# Altium footprint library Pin Grid Array Package (PGA).PcbLib: 60 footprints (part 4 of 6)
Each footprint in its own frame and in the unit in brackets; x right, y up, seen from the top. Pads: shape width x height; smd on the part's side, far side on the other; paste and mask are expansions set on the pad; w line width, h text height; cw(c..) or ccw(c..) is an arc to the next point about the centre after c.
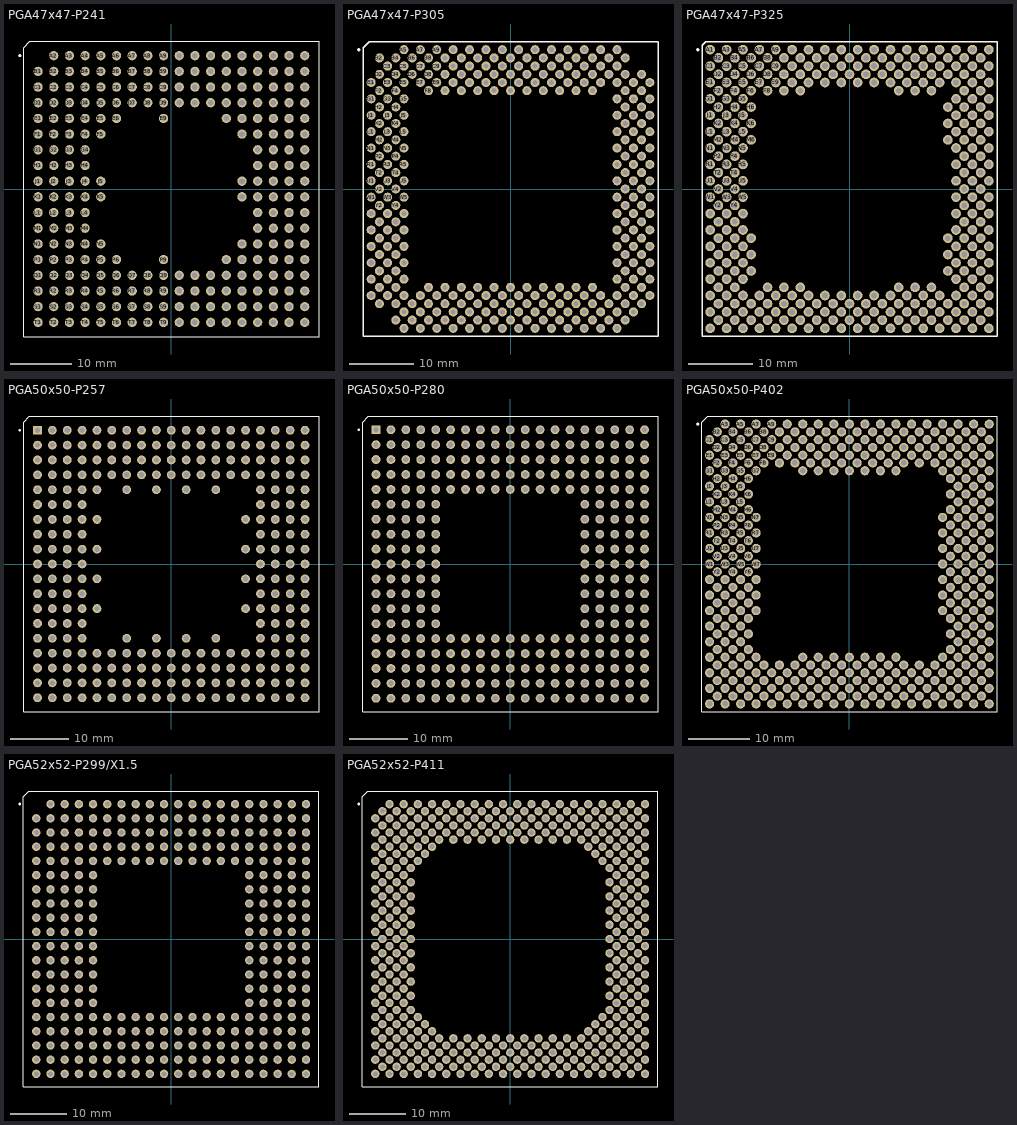
[diagram p3: the footprints below, top view; thin cyan lines are the x and y axes]

## PGA47x47-P241 [mm] "PGA; 241 Leads; Body 47 x 47 mm; Plain Grid"
height 5.08
pads (241):
  round 1.5 hole 0.9: A2(-19.05,21.59) A3(-16.51,21.59) A4(-13.97,21.59) A5(-11.43,21.59) A6(-8.89,21.59) A7(-6.35,21.59) A8(-3.81,21.59) A9(-1.27,21.59) A10(1.27,21.59) A11(3.81,21.59) A12(6.35,21.59) A13(8.89,21.59) A14(11.43,21.59) A15(13.97,21.59) A16(16.51,21.59) A17(19.05,21.59) A18(21.59,21.59) B1(-21.59,19.05) B2(-19.05,19.05) B3(-16.51,19.05) B4(-13.97,19.05) B5(-11.43,19.05) B6(-8.89,19.05) B7(-6.35,19.05) B8(-3.81,19.05) B9(-1.27,19.05) B10(1.27,19.05) B11(3.81,19.05) B12(6.35,19.05) B13(8.89,19.05) B14(11.43,19.05) B15(13.97,19.05) B16(16.51,19.05) B17(19.05,19.05) B18(21.59,19.05) C1(-21.59,16.51) C2(-19.05,16.51) C3(-16.51,16.51) C4(-13.97,16.51) C5(-11.43,16.51) C6(-8.89,16.51) C7(-6.35,16.51) C8(-3.81,16.51) C9(-1.27,16.51) C10(1.27,16.51) C11(3.81,16.51) C12(6.35,16.51) C13(8.89,16.51) C14(11.43,16.51) C15(13.97,16.51) C16(16.51,16.51) C17(19.05,16.51) C18(21.59,16.51) D1(-21.59,13.97) D2(-19.05,13.97) D3(-16.51,13.97) D4(-13.97,13.97) D5(-11.43,13.97) D6(-8.89,13.97) D7(-6.35,13.97) D8(-3.81,13.97) D9(-1.27,13.97) D10(1.27,13.97) D11(3.81,13.97) D12(6.35,13.97) D13(8.89,13.97) D14(11.43,13.97) D15(13.97,13.97) D16(16.51,13.97) D17(19.05,13.97) D18(21.59,13.97) E1(-21.59,11.43) E2(-19.05,11.43) E3(-16.51,11.43) E4(-13.97,11.43) E5(-11.43,11.43) E6(-8.89,11.43) E9(-1.27,11.43) E13(8.89,11.43) E14(11.43,11.43) E15(13.97,11.43) E16(16.51,11.43) E17(19.05,11.43) E18(21.59,11.43) F1(-21.59,8.89) F2(-19.05,8.89) F3(-16.51,8.89) F4(-13.97,8.89) F5(-11.43,8.89) F14(11.43,8.89) F15(13.97,8.89) F16(16.51,8.89) F17(19.05,8.89) F18(21.59,8.89) G1(-21.59,6.35) G2(-19.05,6.35) G3(-16.51,6.35) G4(-13.97,6.35) G15(13.97,6.35) G16(16.51,6.35) G17(19.05,6.35) G18(21.59,6.35) H1(-21.59,3.81) H2(-19.05,3.81) H3(-16.51,3.81) H4(-13.97,3.81) H15(13.97,3.81) H16(16.51,3.81) H17(19.05,3.81) H18(21.59,3.81) J1(-21.59,1.27) J2(-19.05,1.27) J3(-16.51,1.27) J4(-13.97,1.27) J5(-11.43,1.27) J14(11.43,1.27) J15(13.97,1.27) J16(16.51,1.27) J17(19.05,1.27) J18(21.59,1.27) K1(-21.59,-1.27) K2(-19.05,-1.27) K3(-16.51,-1.27) K4(-13.97,-1.27) K5(-11.43,-1.27) K14(11.43,-1.27) K15(13.97,-1.27) K16(16.51,-1.27) K17(19.05,-1.27) K18(21.59,-1.27) L1(-21.59,-3.81) L2(-19.05,-3.81) L3(-16.51,-3.81) L4(-13.97,-3.81) L15(13.97,-3.81) L16(16.51,-3.81) L17(19.05,-3.81) L18(21.59,-3.81) M1(-21.59,-6.35) M2(-19.05,-6.35) M3(-16.51,-6.35) M4(-13.97,-6.35) M15(13.97,-6.35) M16(16.51,-6.35) M17(19.05,-6.35) M18(21.59,-6.35) N1(-21.59,-8.89) N2(-19.05,-8.89) N3(-16.51,-8.89) N4(-13.97,-8.89) N5(-11.43,-8.89) N14(11.43,-8.89) N15(13.97,-8.89) N16(16.51,-8.89) N17(19.05,-8.89) N18(21.59,-8.89) P1(-21.59,-11.43) P2(-19.05,-11.43) P3(-16.51,-11.43) P4(-13.97,-11.43) P5(-11.43,-11.43) P6(-8.89,-11.43) P9(-1.27,-11.43) P13(8.89,-11.43) P14(11.43,-11.43) P15(13.97,-11.43) P16(16.51,-11.43) P17(19.05,-11.43) P18(21.59,-11.43) Q1(-21.59,-13.97) Q2(-19.05,-13.97) Q3(-16.51,-13.97) Q4(-13.97,-13.97) Q5(-11.43,-13.97) Q6(-8.89,-13.97) Q7(-6.35,-13.97) Q8(-3.81,-13.97) Q9(-1.27,-13.97) Q10(1.27,-13.97) Q11(3.81,-13.97) Q12(6.35,-13.97) Q13(8.89,-13.97) Q14(11.43,-13.97) Q15(13.97,-13.97) Q16(16.51,-13.97) Q17(19.05,-13.97) Q18(21.59,-13.97) R1(-21.59,-16.51) R2(-19.05,-16.51) R3(-16.51,-16.51) R4(-13.97,-16.51) R5(-11.43,-16.51) R6(-8.89,-16.51) R7(-6.35,-16.51) R8(-3.81,-16.51) R9(-1.27,-16.51) R10(1.27,-16.51) R11(3.81,-16.51) R12(6.35,-16.51) R13(8.89,-16.51) R14(11.43,-16.51) R15(13.97,-16.51) R16(16.51,-16.51) R17(19.05,-16.51) R18(21.59,-16.51) S1(-21.59,-19.05) S2(-19.05,-19.05) S3(-16.51,-19.05) S4(-13.97,-19.05) S5(-11.43,-19.05) S6(-8.89,-19.05) S7(-6.35,-19.05) S8(-3.81,-19.05) S9(-1.27,-19.05) S10(1.27,-19.05) S11(3.81,-19.05) S12(6.35,-19.05) S13(8.89,-19.05) S14(11.43,-19.05) S15(13.97,-19.05) S16(16.51,-19.05) S17(19.05,-19.05) S18(21.59,-19.05) T1(-21.59,-21.59) T2(-19.05,-21.59) T3(-16.51,-21.59) T4(-13.97,-21.59) T5(-11.43,-21.59) T6(-8.89,-21.59) T7(-6.35,-21.59) T8(-3.81,-21.59) T9(-1.27,-21.59) T10(1.27,-21.59) T11(3.81,-21.59) T12(6.35,-21.59) T13(8.89,-21.59) T14(11.43,-21.59) T15(13.97,-21.59) T16(16.51,-21.59) T17(19.05,-21.59) T18(21.59,-21.59)
Top Overlay:
  circle w0.25: c-24.55,21.59 r0.125
  lines w0.2: -23.9,-23.9 -23.9,22.9 -22.9,23.9 23.9,23.9 23.9,-23.9 -23.9,-23.9

## PGA47x47-P305 [mm] "PGA; 305 Leads; Body 47 x 47 mm; Staggered Grid"
height 5.59
pads (305):
  round 1.4 hole 0.8: A5(-16.51,21.59) A7(-13.97,21.59) A9(-11.43,21.59) A11(-8.89,21.59) A13(-6.35,21.59) A15(-3.81,21.59) A17(-1.27,21.59) A19(1.27,21.59) A21(3.81,21.59) A23(6.35,21.59) A25(8.89,21.59) A27(11.43,21.59) A29(13.97,21.59) A31(16.51,21.59) AA1(-21.59,-3.81) AA3(-19.05,-3.81) AA5(-16.51,-3.81) AA31(16.51,-3.81) AA33(19.05,-3.81) AA35(21.59,-3.81) AB2(-20.32,-5.08) AB4(-17.78,-5.08) AB32(17.78,-5.08) AB34(20.32,-5.08) AC1(-21.59,-6.35) AC3(-19.05,-6.35) AC5(-16.51,-6.35) AC31(16.51,-6.35) AC33(19.05,-6.35) AC35(21.59,-6.35) AD2(-20.32,-7.62) AD4(-17.78,-7.62) AD32(17.78,-7.62) AD34(20.32,-7.62) AE1(-21.59,-8.89) AE3(-19.05,-8.89) AE5(-16.51,-8.89) AE31(16.51,-8.89) AE33(19.05,-8.89) AE35(21.59,-8.89) AF2(-20.32,-10.16) AF4(-17.78,-10.16) AF32(17.78,-10.16) AF34(20.32,-10.16) AG1(-21.59,-11.43) AG3(-19.05,-11.43) AG5(-16.51,-11.43) AG31(16.51,-11.43) AG33(19.05,-11.43) AG35(21.59,-11.43) AH2(-20.32,-12.7) AH4(-17.78,-12.7) AH32(17.78,-12.7) AH34(20.32,-12.7) AJ1(-21.59,-13.97) AJ3(-19.05,-13.97) AJ5(-16.51,-13.97) AJ31(16.51,-13.97) AJ33(19.05,-13.97) AJ35(21.59,-13.97) AK2(-20.32,-15.24) AK4(-17.78,-15.24) AK8(-12.7,-15.24) AK10(-10.16,-15.24) AK12(-7.62,-15.24) AK14(-5.08,-15.24) AK16(-2.54,-15.24) AK18(0,-15.24) AK20(2.54,-15.24) AK22(5.08,-15.24) AK24(7.62,-15.24) AK26(10.16,-15.24) AK28(12.7,-15.24) AK32(17.78,-15.24) AK34(20.32,-15.24) AL1(-21.59,-16.51) AL3(-19.05,-16.51) AL5(-16.51,-16.51) AL7(-13.97,-16.51) AL9(-11.43,-16.51) AL11(-8.89,-16.51) AL13(-6.35,-16.51) AL15(-3.81,-16.51) AL17(-1.27,-16.51) AL19(1.27,-16.51) AL21(3.81,-16.51) AL23(6.35,-16.51) AL25(8.89,-16.51) AL27(11.43,-16.51) AL29(13.97,-16.51) AL31(16.51,-16.51) AL33(19.05,-16.51) AL35(21.59,-16.51) AM2(-20.32,-17.78) AM4(-17.78,-17.78) AM6(-15.24,-17.78) AM8(-12.7,-17.78) AM10(-10.16,-17.78) AM12(-7.62,-17.78) AM14(-5.08,-17.78) AM16(-2.54,-17.78) AM18(0,-17.78) AM20(2.54,-17.78) AM22(5.08,-17.78) AM24(7.62,-17.78) AM26(10.16,-17.78) AM28(12.7,-17.78) AM30(15.24,-17.78) AM32(17.78,-17.78) AM34(20.32,-17.78) AN5(-16.51,-19.05) AN7(-13.97,-19.05) AN9(-11.43,-19.05) AN11(-8.89,-19.05) AN13(-6.35,-19.05) AN15(-3.81,-19.05) AN17(-1.27,-19.05) AN19(1.27,-19.05) AN21(3.81,-19.05) AN23(6.35,-19.05) AN25(8.89,-19.05) AN27(11.43,-19.05) AN29(13.97,-19.05) AN31(16.51,-19.05) AN33(19.05,-19.05) AP4(-17.78,-20.32) AP6(-15.24,-20.32) AP8(-12.7,-20.32) AP10(-10.16,-20.32) AP12(-7.62,-20.32) AP14(-5.08,-20.32) AP16(-2.54,-20.32) AP18(0,-20.32) AP20(2.54,-20.32) AP22(5.08,-20.32) AP24(7.62,-20.32) AP26(10.16,-20.32) AP28(12.7,-20.32) AP30(15.24,-20.32) AP32(17.78,-20.32) AR5(-16.51,-21.59) AR7(-13.97,-21.59) AR9(-11.43,-21.59) AR11(-8.89,-21.59) AR13(-6.35,-21.59) AR15(-3.81,-21.59) AR17(-1.27,-21.59) AR19(1.27,-21.59) AR21(3.81,-21.59) AR23(6.35,-21.59) AR25(8.89,-21.59) AR27(11.43,-21.59) AR29(13.97,-21.59) AR31(16.51,-21.59) B2(-20.32,20.32) B4(-17.78,20.32) B6(-15.24,20.32) B8(-12.7,20.32) B10(-10.16,20.32) B12(-7.62,20.32) B14(-5.08,20.32) B16(-2.54,20.32) B18(0,20.32) B20(2.54,20.32) B22(5.08,20.32) B24(7.62,20.32) B26(10.16,20.32) B28(12.7,20.32) B30(15.24,20.32) B32(17.78,20.32) C3(-19.05,19.05) C5(-16.51,19.05) C7(-13.97,19.05) C9(-11.43,19.05) C11(-8.89,19.05) C13(-6.35,19.05) C15(-3.81,19.05) C17(-1.27,19.05) C19(1.27,19.05) C21(3.81,19.05) C23(6.35,19.05) C25(8.89,19.05) C27(11.43,19.05) C29(13.97,19.05) C31(16.51,19.05) D2(-20.32,17.78) D4(-17.78,17.78) D6(-15.24,17.78) D8(-12.7,17.78) D10(-10.16,17.78) D12(-7.62,17.78) D14(-5.08,17.78) D16(-2.54,17.78) D18(0,17.78) D20(2.54,17.78) D22(5.08,17.78) D24(7.62,17.78) D26(10.16,17.78) D28(12.7,17.78) D30(15.24,17.78) D32(17.78,17.78) D34(20.32,17.78) E1(-21.59,16.51) E3(-19.05,16.51) E5(-16.51,16.51) E7(-13.97,16.51) E9(-11.43,16.51) E11(-8.89,16.51) E13(-6.35,16.51) E15(-3.81,16.51) E17(-1.27,16.51) E19(1.27,16.51) E21(3.81,16.51) E23(6.35,16.51) E25(8.89,16.51) E27(11.43,16.51) E29(13.97,16.51) E31(16.51,16.51) E33(19.05,16.51) E35(21.59,16.51) F2(-20.32,15.24) F4(-17.78,15.24) F8(-12.7,15.24) F10(-10.16,15.24) F12(-7.62,15.24) F14(-5.08,15.24) F16(-2.54,15.24) F18(0,15.24) F20(2.54,15.24) F22(5.08,15.24) F24(7.62,15.24) F26(10.16,15.24) F28(12.7,15.24) F32(17.78,15.24) F34(20.32,15.24) G1(-21.59,13.97) G3(-19.05,13.97) G5(-16.51,13.97) G31(16.51,13.97) G33(19.05,13.97) G35(21.59,13.97) H2(-20.32,12.7) H4(-17.78,12.7) H32(17.78,12.7) H34(20.32,12.7) J1(-21.59,11.43) J3(-19.05,11.43) J5(-16.51,11.43) J31(16.51,11.43) J33(19.05,11.43) J35(21.59,11.43) K2(-20.32,10.16) K4(-17.78,10.16) K32(17.78,10.16) K34(20.32,10.16) L1(-21.59,8.89) L3(-19.05,8.89) L5(-16.51,8.89) L31(16.51,8.89) L33(19.05,8.89) L35(21.59,8.89) M2(-20.32,7.62) M4(-17.78,7.62) M32(17.78,7.62) M34(20.32,7.62) N1(-21.59,6.35) N3(-19.05,6.35) N5(-16.51,6.35) N31(16.51,6.35) N33(19.05,6.35) N35(21.59,6.35) P2(-20.32,5.08) P4(-17.78,5.08) P32(17.78,5.08) P34(20.32,5.08) R1(-21.59,3.81) R3(-19.05,3.81) R5(-16.51,3.81) R31(16.51,3.81) R33(19.05,3.81) R35(21.59,3.81) T2(-20.32,2.54) T4(-17.78,2.54) T32(17.78,2.54) T34(20.32,2.54) U1(-21.59,1.27) U3(-19.05,1.27) U5(-16.51,1.27) U31(16.51,1.27) U33(19.05,1.27) U35(21.59,1.27) V2(-20.32,0) V4(-17.78,0) V32(17.78,0) V34(20.32,0) W1(-21.59,-1.27) W3(-19.05,-1.27) W5(-16.51,-1.27) W31(16.51,-1.27) W33(19.05,-1.27) W35(21.59,-1.27) Y2(-20.32,-2.54) Y4(-17.78,-2.54) Y32(17.78,-2.54) Y34(20.32,-2.54)
Top Overlay:
  circle w0.25: c-23.51,21.59 r0.125
  lines w0.2: -22.86,-22.86 -22.86,21.86 -21.86,22.86 22.86,22.86 22.86,-22.86 -22.86,-22.86

## PGA47x47-P325 [mm] "PGA; 325 Leads; Body 47 x 47 mm; Staggered Grid"
height 5.08
pads (325):
  round 1.5 hole 0.9: A1(-21.59,21.59) A3(-19.05,21.59) A5(-16.51,21.59) A7(-13.97,21.59) A9(-11.43,21.59) A11(-8.89,21.59) A13(-6.35,21.59) A15(-3.81,21.59) A17(-1.27,21.59) A19(1.27,21.59) A21(3.81,21.59) A23(6.35,21.59) A25(8.89,21.59) A27(11.43,21.59) A29(13.97,21.59) A31(16.51,21.59) A33(19.05,21.59) A35(21.59,21.59) AA1(-21.59,-3.81) AA3(-19.05,-3.81) AA5(-16.51,-3.81) AA31(16.51,-3.81) AA33(19.05,-3.81) AA35(21.59,-3.81) AB2(-20.32,-5.08) AB4(-17.78,-5.08) AB32(17.78,-5.08) AB34(20.32,-5.08) AC1(-21.59,-6.35) AC3(-19.05,-6.35) AC5(-16.51,-6.35) AC31(16.51,-6.35) AC33(19.05,-6.35) AC35(21.59,-6.35) AD2(-20.32,-7.62) AD4(-17.78,-7.62) AD6(-15.24,-7.62) AD30(15.24,-7.62) AD32(17.78,-7.62) AD34(20.32,-7.62) AE1(-21.59,-8.89) AE3(-19.05,-8.89) AE5(-16.51,-8.89) AE31(16.51,-8.89) AE33(19.05,-8.89) AE35(21.59,-8.89) AF2(-20.32,-10.16) AF4(-17.78,-10.16) AF6(-15.24,-10.16) AF30(15.24,-10.16) AF32(17.78,-10.16) AF34(20.32,-10.16) AG1(-21.59,-11.43) AG3(-19.05,-11.43) AG5(-16.51,-11.43) AG31(16.51,-11.43) AG33(19.05,-11.43) AG35(21.59,-11.43) AH2(-20.32,-12.7) AH4(-17.78,-12.7) AH6(-15.24,-12.7) AH30(15.24,-12.7) AH32(17.78,-12.7) AH34(20.32,-12.7) AJ1(-21.59,-13.97) AJ3(-19.05,-13.97) AJ5(-16.51,-13.97) AJ31(16.51,-13.97) AJ33(19.05,-13.97) AJ35(21.59,-13.97) AK2(-20.32,-15.24) AK4(-17.78,-15.24) AK8(-12.7,-15.24) AK10(-10.16,-15.24) AK12(-7.62,-15.24) AK24(7.62,-15.24) AK26(10.16,-15.24) AK28(12.7,-15.24) AK32(17.78,-15.24) AK34(20.32,-15.24) AL1(-21.59,-16.51) AL3(-19.05,-16.51) AL5(-16.51,-16.51) AL7(-13.97,-16.51) AL9(-11.43,-16.51) AL11(-8.89,-16.51) AL13(-6.35,-16.51) AL15(-3.81,-16.51) AL17(-1.27,-16.51) AL19(1.27,-16.51) AL21(3.81,-16.51) AL23(6.35,-16.51) AL25(8.89,-16.51) AL27(11.43,-16.51) AL29(13.97,-16.51) AL31(16.51,-16.51) AL33(19.05,-16.51) AL35(21.59,-16.51) AM2(-20.32,-17.78) AM4(-17.78,-17.78) AM6(-15.24,-17.78) AM8(-12.7,-17.78) AM10(-10.16,-17.78) AM12(-7.62,-17.78) AM14(-5.08,-17.78) AM16(-2.54,-17.78) AM18(0,-17.78) AM20(2.54,-17.78) AM22(5.08,-17.78) AM24(7.62,-17.78) AM26(10.16,-17.78) AM28(12.7,-17.78) AM30(15.24,-17.78) AM32(17.78,-17.78) AM34(20.32,-17.78) AN1(-21.59,-19.05) AN3(-19.05,-19.05) AN5(-16.51,-19.05) AN7(-13.97,-19.05) AN9(-11.43,-19.05) AN11(-8.89,-19.05) AN13(-6.35,-19.05) AN15(-3.81,-19.05) AN17(-1.27,-19.05) AN19(1.27,-19.05) AN21(3.81,-19.05) AN23(6.35,-19.05) AN25(8.89,-19.05) AN27(11.43,-19.05) AN29(13.97,-19.05) AN31(16.51,-19.05) AN33(19.05,-19.05) AN35(21.59,-19.05) AP2(-20.32,-20.32) AP4(-17.78,-20.32) AP6(-15.24,-20.32) AP8(-12.7,-20.32) AP10(-10.16,-20.32) AP12(-7.62,-20.32) AP14(-5.08,-20.32) AP16(-2.54,-20.32) AP18(0,-20.32) AP20(2.54,-20.32) AP22(5.08,-20.32) AP24(7.62,-20.32) AP26(10.16,-20.32) AP28(12.7,-20.32) AP30(15.24,-20.32) AP32(17.78,-20.32) AP34(20.32,-20.32) AR1(-21.59,-21.59) AR3(-19.05,-21.59) AR5(-16.51,-21.59) AR7(-13.97,-21.59) AR9(-11.43,-21.59) AR11(-8.89,-21.59) AR13(-6.35,-21.59) AR15(-3.81,-21.59) AR17(-1.27,-21.59) AR19(1.27,-21.59) AR21(3.81,-21.59) AR23(6.35,-21.59) AR25(8.89,-21.59) AR27(11.43,-21.59) AR29(13.97,-21.59) AR31(16.51,-21.59) AR33(19.05,-21.59) AR35(21.59,-21.59) B2(-20.32,20.32) B4(-17.78,20.32) B6(-15.24,20.32) B8(-12.7,20.32) B10(-10.16,20.32) B12(-7.62,20.32) B14(-5.08,20.32) B16(-2.54,20.32) B18(0,20.32) B20(2.54,20.32) B22(5.08,20.32) B24(7.62,20.32) B26(10.16,20.32) B28(12.7,20.32) B30(15.24,20.32) B32(17.78,20.32) B34(20.32,20.32) C1(-21.59,19.05) C3(-19.05,19.05) C5(-16.51,19.05) C7(-13.97,19.05) C9(-11.43,19.05) C11(-8.89,19.05) C13(-6.35,19.05) C15(-3.81,19.05) C17(-1.27,19.05) C19(1.27,19.05) C21(3.81,19.05) C23(6.35,19.05) C25(8.89,19.05) C27(11.43,19.05) C29(13.97,19.05) C31(16.51,19.05) C33(19.05,19.05) C35(21.59,19.05) D2(-20.32,17.78) D4(-17.78,17.78) D6(-15.24,17.78) D8(-12.7,17.78) D10(-10.16,17.78) D12(-7.62,17.78) D14(-5.08,17.78) D16(-2.54,17.78) D18(0,17.78) D20(2.54,17.78) D22(5.08,17.78) D24(7.62,17.78) D26(10.16,17.78) D28(12.7,17.78) D30(15.24,17.78) D32(17.78,17.78) D34(20.32,17.78) E1(-21.59,16.51) E3(-19.05,16.51) E5(-16.51,16.51) E7(-13.97,16.51) E9(-11.43,16.51) E11(-8.89,16.51) E13(-6.35,16.51) E15(-3.81,16.51) E17(-1.27,16.51) E19(1.27,16.51) E21(3.81,16.51) E23(6.35,16.51) E25(8.89,16.51) E27(11.43,16.51) E29(13.97,16.51) E31(16.51,16.51) E33(19.05,16.51) E35(21.59,16.51) F2(-20.32,15.24) F4(-17.78,15.24) F6(-15.24,15.24) F8(-12.7,15.24) F10(-10.16,15.24) F12(-7.62,15.24) F24(7.62,15.24) F26(10.16,15.24) F28(12.7,15.24) F32(17.78,15.24) F34(20.32,15.24) G1(-21.59,13.97) G3(-19.05,13.97) G5(-16.51,13.97) G31(16.51,13.97) G33(19.05,13.97) G35(21.59,13.97) H2(-20.32,12.7) H4(-17.78,12.7) H6(-15.24,12.7) H30(15.24,12.7) H32(17.78,12.7) H34(20.32,12.7) J1(-21.59,11.43) J3(-19.05,11.43) J5(-16.51,11.43) J31(16.51,11.43) J33(19.05,11.43) J35(21.59,11.43) K2(-20.32,10.16) K4(-17.78,10.16) K6(-15.24,10.16) K30(15.24,10.16) K32(17.78,10.16) K34(20.32,10.16) L1(-21.59,8.89) L3(-19.05,8.89) L5(-16.51,8.89) L31(16.51,8.89) L33(19.05,8.89) L35(21.59,8.89) M2(-20.32,7.62) M4(-17.78,7.62) M6(-15.24,7.62) M30(15.24,7.62) M32(17.78,7.62) M34(20.32,7.62) N1(-21.59,6.35) N3(-19.05,6.35) N5(-16.51,6.35) N31(16.51,6.35) N33(19.05,6.35) N35(21.59,6.35) P2(-20.32,5.08) P4(-17.78,5.08) P32(17.78,5.08) P34(20.32,5.08) R1(-21.59,3.81) R3(-19.05,3.81) R5(-16.51,3.81) R31(16.51,3.81) R33(19.05,3.81) R35(21.59,3.81) T2(-20.32,2.54) T4(-17.78,2.54) T32(17.78,2.54) T34(20.32,2.54) U1(-21.59,1.27) U3(-19.05,1.27) U5(-16.51,1.27) U31(16.51,1.27) U33(19.05,1.27) U35(21.59,1.27) V2(-20.32,0) V4(-17.78,0) V32(17.78,0) V34(20.32,0) W1(-21.59,-1.27) W3(-19.05,-1.27) W5(-16.51,-1.27) W31(16.51,-1.27) W33(19.05,-1.27) W35(21.59,-1.27) Y2(-20.32,-2.54) Y4(-17.78,-2.54) Y32(17.78,-2.54) Y34(20.32,-2.54)
Top Overlay:
  circle w0.25: c-23.51,21.59 r0.125
  lines w0.2: -22.86,-22.86 -22.86,22.286 -22.286,22.86 22.86,22.86 22.86,-22.86 -22.86,-22.86

## PGA50x50-P257 [mm] "257-Pin Ceramic Pin Grid Array (CPGA)"
height 4.37
pads (257):
  rect 1.5x1.5 hole 0.9: A1(-22.86,22.86)
  round 1.5 hole 0.9: A2(-20.32,22.86) A3(-17.78,22.86) A4(-15.24,22.86) A5(-12.7,22.86) A6(-10.16,22.86) A7(-7.62,22.86) A8(-5.08,22.86) A9(-2.54,22.86) A10(0,22.86) A11(2.54,22.86) A12(5.08,22.86) A13(7.62,22.86) A14(10.16,22.86) A15(12.7,22.86) A16(15.24,22.86) A17(17.78,22.86) A18(20.32,22.86) A19(22.86,22.86) B1(-22.86,20.32) B2(-20.32,20.32) B3(-17.78,20.32) B4(-15.24,20.32) B5(-12.7,20.32) B6(-10.16,20.32) B7(-7.62,20.32) B8(-5.08,20.32) B9(-2.54,20.32) B10(0,20.32) B11(2.54,20.32) B12(5.08,20.32) B13(7.62,20.32) B14(10.16,20.32) B15(12.7,20.32) B16(15.24,20.32) B17(17.78,20.32) B18(20.32,20.32) B19(22.86,20.32) C1(-22.86,17.78) C2(-20.32,17.78) C3(-17.78,17.78) C4(-15.24,17.78) C5(-12.7,17.78) C6(-10.16,17.78) C7(-7.62,17.78) C8(-5.08,17.78) C9(-2.54,17.78) C10(0,17.78) C11(2.54,17.78) C12(5.08,17.78) C13(7.62,17.78) C14(10.16,17.78) C15(12.7,17.78) C16(15.24,17.78) C17(17.78,17.78) C18(20.32,17.78) C19(22.86,17.78) D1(-22.86,15.24) D2(-20.32,15.24) D3(-17.78,15.24) D4(-15.24,15.24) D5(-12.7,15.24) D6(-10.16,15.24) D7(-7.62,15.24) D8(-5.08,15.24) D9(-2.54,15.24) D10(0,15.24) D11(2.54,15.24) D12(5.08,15.24) D13(7.62,15.24) D14(10.16,15.24) D15(12.7,15.24) D16(15.24,15.24) D17(17.78,15.24) D18(20.32,15.24) D19(22.86,15.24) E1(-22.86,12.7) E2(-20.32,12.7) E3(-17.78,12.7) E4(-15.24,12.7) E5(-12.7,12.7) E7(-7.62,12.7) E9(-2.54,12.7) E11(2.54,12.7) E13(7.62,12.7) E16(15.24,12.7) E17(17.78,12.7) E18(20.32,12.7) E19(22.86,12.7) F1(-22.86,10.16) F2(-20.32,10.16) F3(-17.78,10.16) F4(-15.24,10.16) F16(15.24,10.16) F17(17.78,10.16) F18(20.32,10.16) F19(22.86,10.16) G1(-22.86,7.62) G2(-20.32,7.62) G3(-17.78,7.62) G4(-15.24,7.62) G5(-12.7,7.62) G15(12.7,7.62) G16(15.24,7.62) G17(17.78,7.62) G18(20.32,7.62) G19(22.86,7.62) H1(-22.86,5.08) H2(-20.32,5.08) H3(-17.78,5.08) H4(-15.24,5.08) H16(15.24,5.08) H17(17.78,5.08) H18(20.32,5.08) H19(22.86,5.08) J1(-22.86,2.54) J2(-20.32,2.54) J3(-17.78,2.54) J4(-15.24,2.54) J5(-12.7,2.54) J15(12.7,2.54) J16(15.24,2.54) J17(17.78,2.54) J18(20.32,2.54) J19(22.86,2.54) K1(-22.86,0) K2(-20.32,0) K3(-17.78,0) K4(-15.24,0) K16(15.24,0) K17(17.78,0) K18(20.32,0) K19(22.86,0) L1(-22.86,-2.54) L2(-20.32,-2.54) L3(-17.78,-2.54) L4(-15.24,-2.54) L5(-12.7,-2.54) L15(12.7,-2.54) L16(15.24,-2.54) L17(17.78,-2.54) L18(20.32,-2.54) L19(22.86,-2.54) M1(-22.86,-5.08) M2(-20.32,-5.08) M3(-17.78,-5.08) M4(-15.24,-5.08) M16(15.24,-5.08) M17(17.78,-5.08) M18(20.32,-5.08) M19(22.86,-5.08) N1(-22.86,-7.62) N2(-20.32,-7.62) N3(-17.78,-7.62) N4(-15.24,-7.62) N5(-12.7,-7.62) N15(12.7,-7.62) N16(15.24,-7.62) N17(17.78,-7.62) N18(20.32,-7.62) N19(22.86,-7.62) P1(-22.86,-10.16) P2(-20.32,-10.16) P3(-17.78,-10.16) P4(-15.24,-10.16) P16(15.24,-10.16) P17(17.78,-10.16) P18(20.32,-10.16) P19(22.86,-10.16) R1(-22.86,-12.7) R2(-20.32,-12.7) R3(-17.78,-12.7) R4(-15.24,-12.7) R7(-7.62,-12.7) R9(-2.54,-12.7) R11(2.54,-12.7) R13(7.62,-12.7) R16(15.24,-12.7) R17(17.78,-12.7) R18(20.32,-12.7) R19(22.86,-12.7) T1(-22.86,-15.24) T2(-20.32,-15.24) T3(-17.78,-15.24) T4(-15.24,-15.24) T5(-12.7,-15.24) T6(-10.16,-15.24) T7(-7.62,-15.24) T8(-5.08,-15.24) T9(-2.54,-15.24) T10(0,-15.24) T11(2.54,-15.24) T12(5.08,-15.24) T13(7.62,-15.24) T14(10.16,-15.24) T15(12.7,-15.24) T16(15.24,-15.24) T17(17.78,-15.24) T18(20.32,-15.24) T19(22.86,-15.24) V1(-22.86,-17.78) V2(-20.32,-17.78) V3(-17.78,-17.78) V4(-15.24,-17.78) V5(-12.7,-17.78) V6(-10.16,-17.78) V7(-7.62,-17.78) V8(-5.08,-17.78) V9(-2.54,-17.78) V10(0,-17.78) V11(2.54,-17.78) V12(5.08,-17.78) V13(7.62,-17.78) V14(10.16,-17.78) V15(12.7,-17.78) V16(15.24,-17.78) V17(17.78,-17.78) V18(20.32,-17.78) V19(22.86,-17.78) X1(-22.86,-20.32) X2(-20.32,-20.32) X3(-17.78,-20.32) X4(-15.24,-20.32) X5(-12.7,-20.32) X6(-10.16,-20.32) X7(-7.62,-20.32) X8(-5.08,-20.32) X9(-2.54,-20.32) X10(0,-20.32) X11(2.54,-20.32) X12(5.08,-20.32) X13(7.62,-20.32) X14(10.16,-20.32) X15(12.7,-20.32) X16(15.24,-20.32) X17(17.78,-20.32) X18(20.32,-20.32) X19(22.86,-20.32) Y1(-22.86,-22.86) Y2(-20.32,-22.86) Y3(-17.78,-22.86) Y4(-15.24,-22.86) Y5(-12.7,-22.86) Y6(-10.16,-22.86) Y7(-7.62,-22.86) Y8(-5.08,-22.86) Y9(-2.54,-22.86) Y10(0,-22.86) Y11(2.54,-22.86) Y12(5.08,-22.86) Y13(7.62,-22.86) Y14(10.16,-22.86) Y15(12.7,-22.86) Y16(15.24,-22.86) Y17(17.78,-22.86) Y18(20.32,-22.86) Y19(22.86,-22.86)
Top Overlay:
  circle w0.25: c-25.9,22.86 r0.125
  lines w0.2: -25.25,-25.25 -25.25,24.25 -24.25,25.25 25.25,25.25 25.25,-25.25 -25.25,-25.25

## PGA50x50-P280 [mm] "280-Pin Ceramic Pin-Grid Array (PGA)"
height 5.08
pads (280):
  rect 1.5x1.5 hole 0.9: A1(-22.86,22.86)
  round 1.5 hole 0.9: A2(-20.32,22.86) A3(-17.78,22.86) A4(-15.24,22.86) A5(-12.7,22.86) A6(-10.16,22.86) A7(-7.62,22.86) A8(-5.08,22.86) A9(-2.54,22.86) A10(0,22.86) A11(2.54,22.86) A12(5.08,22.86) A13(7.62,22.86) A14(10.16,22.86) A15(12.7,22.86) A16(15.24,22.86) A17(17.78,22.86) A18(20.32,22.86) A19(22.86,22.86) B1(-22.86,20.32) B2(-20.32,20.32) B3(-17.78,20.32) B4(-15.24,20.32) B5(-12.7,20.32) B6(-10.16,20.32) B7(-7.62,20.32) B8(-5.08,20.32) B9(-2.54,20.32) B10(0,20.32) B11(2.54,20.32) B12(5.08,20.32) B13(7.62,20.32) B14(10.16,20.32) B15(12.7,20.32) B16(15.24,20.32) B17(17.78,20.32) B18(20.32,20.32) B19(22.86,20.32) C1(-22.86,17.78) C2(-20.32,17.78) C3(-17.78,17.78) C4(-15.24,17.78) C5(-12.7,17.78) C6(-10.16,17.78) C7(-7.62,17.78) C8(-5.08,17.78) C9(-2.54,17.78) C10(0,17.78) C11(2.54,17.78) C12(5.08,17.78) C13(7.62,17.78) C14(10.16,17.78) C15(12.7,17.78) C16(15.24,17.78) C17(17.78,17.78) C18(20.32,17.78) C19(22.86,17.78) D1(-22.86,15.24) D2(-20.32,15.24) D3(-17.78,15.24) D4(-15.24,15.24) D5(-12.7,15.24) D6(-10.16,15.24) D7(-7.62,15.24) D8(-5.08,15.24) D9(-2.54,15.24) D10(0,15.24) D11(2.54,15.24) D12(5.08,15.24) D13(7.62,15.24) D14(10.16,15.24) D15(12.7,15.24) D16(15.24,15.24) D17(17.78,15.24) D18(20.32,15.24) D19(22.86,15.24) E1(-22.86,12.7) E2(-20.32,12.7) E3(-17.78,12.7) E4(-15.24,12.7) E5(-12.7,12.7) E6(-10.16,12.7) E7(-7.62,12.7) E8(-5.08,12.7) E9(-2.54,12.7) E10(0,12.7) E11(2.54,12.7) E12(5.08,12.7) E13(7.62,12.7) E14(10.16,12.7) E15(12.7,12.7) E16(15.24,12.7) E17(17.78,12.7) E18(20.32,12.7) E19(22.86,12.7) F1(-22.86,10.16) F2(-20.32,10.16) F3(-17.78,10.16) F4(-15.24,10.16) F5(-12.7,10.16) F15(12.7,10.16) F16(15.24,10.16) F17(17.78,10.16) F18(20.32,10.16) F19(22.86,10.16) G1(-22.86,7.62) G2(-20.32,7.62) G3(-17.78,7.62) G4(-15.24,7.62) G5(-12.7,7.62) G15(12.7,7.62) G16(15.24,7.62) G17(17.78,7.62) G18(20.32,7.62) G19(22.86,7.62) H1(-22.86,5.08) H2(-20.32,5.08) H3(-17.78,5.08) H4(-15.24,5.08) H5(-12.7,5.08) H15(12.7,5.08) H16(15.24,5.08) H17(17.78,5.08) H18(20.32,5.08) H19(22.86,5.08) J1(-22.86,2.54) J2(-20.32,2.54) J3(-17.78,2.54) J4(-15.24,2.54) J5(-12.7,2.54) J15(12.7,2.54) J16(15.24,2.54) J17(17.78,2.54) J18(20.32,2.54) J19(22.86,2.54) K1(-22.86,0) K2(-20.32,0) K3(-17.78,0) K4(-15.24,0) K5(-12.7,0) K15(12.7,0) K16(15.24,0) K17(17.78,0) K18(20.32,0) K19(22.86,0) L1(-22.86,-2.54) L2(-20.32,-2.54) L3(-17.78,-2.54) L4(-15.24,-2.54) L5(-12.7,-2.54) L15(12.7,-2.54) L16(15.24,-2.54) L17(17.78,-2.54) L18(20.32,-2.54) L19(22.86,-2.54) M1(-22.86,-5.08) M2(-20.32,-5.08) M3(-17.78,-5.08) M4(-15.24,-5.08) M5(-12.7,-5.08) M15(12.7,-5.08) M16(15.24,-5.08) M17(17.78,-5.08) M18(20.32,-5.08) M19(22.86,-5.08) N1(-22.86,-7.62) N2(-20.32,-7.62) N3(-17.78,-7.62) N4(-15.24,-7.62) N5(-12.7,-7.62) N15(12.7,-7.62) N16(15.24,-7.62) N17(17.78,-7.62) N18(20.32,-7.62) N19(22.86,-7.62) P1(-22.86,-10.16) P2(-20.32,-10.16) P3(-17.78,-10.16) P4(-15.24,-10.16) P5(-12.7,-10.16) P15(12.7,-10.16) P16(15.24,-10.16) P17(17.78,-10.16) P18(20.32,-10.16) P19(22.86,-10.16) R1(-22.86,-12.7) R2(-20.32,-12.7) R3(-17.78,-12.7) R4(-15.24,-12.7) R5(-12.7,-12.7) R6(-10.16,-12.7) R7(-7.62,-12.7) R8(-5.08,-12.7) R9(-2.54,-12.7) R10(0,-12.7) R11(2.54,-12.7) R12(5.08,-12.7) R13(7.62,-12.7) R14(10.16,-12.7) R15(12.7,-12.7) R16(15.24,-12.7) R17(17.78,-12.7) R18(20.32,-12.7) R19(22.86,-12.7) T1(-22.86,-15.24) T2(-20.32,-15.24) T3(-17.78,-15.24) T4(-15.24,-15.24) T5(-12.7,-15.24) T6(-10.16,-15.24) T7(-7.62,-15.24) T8(-5.08,-15.24) T9(-2.54,-15.24) T10(0,-15.24) T11(2.54,-15.24) T12(5.08,-15.24) T13(7.62,-15.24) T14(10.16,-15.24) T15(12.7,-15.24) T16(15.24,-15.24) T17(17.78,-15.24) T18(20.32,-15.24) T19(22.86,-15.24) U1(-22.86,-17.78) U2(-20.32,-17.78) U3(-17.78,-17.78) U4(-15.24,-17.78) U5(-12.7,-17.78) U6(-10.16,-17.78) U7(-7.62,-17.78) U8(-5.08,-17.78) U9(-2.54,-17.78) U10(0,-17.78) U11(2.54,-17.78) U12(5.08,-17.78) U13(7.62,-17.78) U14(10.16,-17.78) U15(12.7,-17.78) U16(15.24,-17.78) U17(17.78,-17.78) U18(20.32,-17.78) U19(22.86,-17.78) V1(-22.86,-20.32) V2(-20.32,-20.32) V3(-17.78,-20.32) V4(-15.24,-20.32) V5(-12.7,-20.32) V6(-10.16,-20.32) V7(-7.62,-20.32) V8(-5.08,-20.32) V9(-2.54,-20.32) V10(0,-20.32) V11(2.54,-20.32) V12(5.08,-20.32) V13(7.62,-20.32) V14(10.16,-20.32) V15(12.7,-20.32) V16(15.24,-20.32) V17(17.78,-20.32) V18(20.32,-20.32) V19(22.86,-20.32) W1(-22.86,-22.86) W2(-20.32,-22.86) W3(-17.78,-22.86) W4(-15.24,-22.86) W5(-12.7,-22.86) W6(-10.16,-22.86) W7(-7.62,-22.86) W8(-5.08,-22.86) W9(-2.54,-22.86) W10(0,-22.86) W11(2.54,-22.86) W12(5.08,-22.86) W13(7.62,-22.86) W14(10.16,-22.86) W15(12.7,-22.86) W16(15.24,-22.86) W17(17.78,-22.86) W18(20.32,-22.86) W19(22.86,-22.86)
Top Overlay:
  circle w0.25: c-25.8,22.86 r0.125
  lines w0.2: -25.15,-25.15 25.15,-25.15 25.15,25.15 -24.15,25.15 -25.15,24.15 -25.15,-25.15

## PGA50x50-P402 [mm] "403-Pin Ceramic Pin-Grid Array (PGA)"
height 5.03
pads (403):
  round 1.5 hole 0.9: A3(-20.32,22.86) A5(-17.78,22.86) A7(-15.24,22.86) A9(-12.7,22.86) A11(-10.16,22.86) A13(-7.62,22.86) A15(-5.08,22.86) A17(-2.54,22.86) A19(0,22.86) A21(2.54,22.86) A23(5.08,22.86) A25(7.62,22.86) A27(10.16,22.86) A29(12.7,22.86) A31(15.24,22.86) A33(17.78,22.86) A35(20.32,22.86) A37(22.86,22.86) AA1(-22.86,-2.54) AA3(-20.32,-2.54) AA5(-17.78,-2.54) AA7(-15.24,-2.54) AA31(15.24,-2.54) AA33(17.78,-2.54) AA35(20.32,-2.54) AA37(22.86,-2.54) AB2(-21.59,-3.81) AB4(-19.05,-3.81) AB6(-16.51,-3.81) AB32(16.51,-3.81) AB34(19.05,-3.81) AB36(21.59,-3.81) AC1(-22.86,-5.08) AC3(-20.32,-5.08) AC5(-17.78,-5.08) AC7(-15.24,-5.08) AC31(15.24,-5.08) AC33(17.78,-5.08) AC35(20.32,-5.08) AC37(22.86,-5.08) AD2(-21.59,-6.35) AD4(-19.05,-6.35) AD6(-16.51,-6.35) AD32(16.51,-6.35) AD34(19.05,-6.35) AD36(21.59,-6.35) AE1(-22.86,-7.62) AE3(-20.32,-7.62) AE5(-17.78,-7.62) AE7(-15.24,-7.62) AE31(15.24,-7.62) AE33(17.78,-7.62) AE35(20.32,-7.62) AE37(22.86,-7.62) AF2(-21.59,-8.89) AF4(-19.05,-8.89) AF6(-16.51,-8.89) AF32(16.51,-8.89) AF34(19.05,-8.89) AF36(21.59,-8.89) AG1(-22.86,-10.16) AG3(-20.32,-10.16) AG5(-17.78,-10.16) AG33(17.78,-10.16) AG35(20.32,-10.16) AG37(22.86,-10.16) AH2(-21.59,-11.43) AH4(-19.05,-11.43) AH6(-16.51,-11.43) AH32(16.51,-11.43) AH34(19.05,-11.43) AH36(21.59,-11.43) AJ1(-22.86,-12.7) AJ3(-20.32,-12.7) AJ5(-17.78,-12.7) AJ33(17.78,-12.7) AJ35(20.32,-12.7) AJ37(22.86,-12.7) AK2(-21.59,-13.97) AK4(-19.05,-13.97) AK6(-16.51,-13.97) AK32(16.51,-13.97) AK34(19.05,-13.97) AK36(21.59,-13.97) AL1(-22.86,-15.24) AL3(-20.32,-15.24) AL5(-17.78,-15.24) AL7(-15.24,-15.24) AL13(-7.62,-15.24) AL15(-5.08,-15.24) AL17(-2.54,-15.24) AL19(0,-15.24) AL21(2.54,-15.24) AL23(5.08,-15.24) AL25(7.62,-15.24) AL31(15.24,-15.24) AL33(17.78,-15.24) AL35(20.32,-15.24) AL37(22.86,-15.24) AM2(-21.59,-16.51) AM4(-19.05,-16.51) AM6(-16.51,-16.51) AM8(-13.97,-16.51) AM10(-11.43,-16.51) AM12(-8.89,-16.51) AM14(-6.35,-16.51) AM16(-3.81,-16.51) AM18(-1.27,-16.51) AM20(1.27,-16.51) AM22(3.81,-16.51) AM24(6.35,-16.51) AM26(8.89,-16.51) AM28(11.43,-16.51) AM30(13.97,-16.51) AM32(16.51,-16.51) AM34(19.05,-16.51) AM36(21.59,-16.51) AN1(-22.86,-17.78) AN3(-20.32,-17.78) AN5(-17.78,-17.78) AN7(-15.24,-17.78) AN9(-12.7,-17.78) AN11(-10.16,-17.78) AN13(-7.62,-17.78) AN15(-5.08,-17.78) AN17(-2.54,-17.78) AN19(0,-17.78) AN21(2.54,-17.78) AN23(5.08,-17.78) AN25(7.62,-17.78) AN27(10.16,-17.78) AN29(12.7,-17.78) AN31(15.24,-17.78) AN33(17.78,-17.78) AN35(20.32,-17.78) AN37(22.86,-17.78) AP2(-21.59,-19.05) AP4(-19.05,-19.05) AP6(-16.51,-19.05) AP8(-13.97,-19.05) AP10(-11.43,-19.05) AP12(-8.89,-19.05) AP14(-6.35,-19.05) AP16(-3.81,-19.05) AP18(-1.27,-19.05) AP20(1.27,-19.05) AP22(3.81,-19.05) AP24(6.35,-19.05) AP26(8.89,-19.05) AP28(11.43,-19.05) AP30(13.97,-19.05) AP32(16.51,-19.05) AP34(19.05,-19.05) AP36(21.59,-19.05) AR1(-22.86,-20.32) AR3(-20.32,-20.32) AR5(-17.78,-20.32) AR7(-15.24,-20.32) AR9(-12.7,-20.32) AR11(-10.16,-20.32) AR13(-7.62,-20.32) AR15(-5.08,-20.32) AR17(-2.54,-20.32) AR19(0,-20.32) AR21(2.54,-20.32) AR23(5.08,-20.32) AR25(7.62,-20.32) AR27(10.16,-20.32) AR29(12.7,-20.32) AR31(15.24,-20.32) AR33(17.78,-20.32) AR35(20.32,-20.32) AR37(22.86,-20.32) AT2(-21.59,-21.59) AT4(-19.05,-21.59) AT6(-16.51,-21.59) AT8(-13.97,-21.59) AT10(-11.43,-21.59) AT12(-8.89,-21.59) AT14(-6.35,-21.59) AT16(-3.81,-21.59) AT18(-1.27,-21.59) AT20(1.27,-21.59) AT22(3.81,-21.59) AT24(6.35,-21.59) AT26(8.89,-21.59) AT28(11.43,-21.59) AT30(13.97,-21.59) AT32(16.51,-21.59) AT34(19.05,-21.59) AT36(21.59,-21.59) AU1(-22.86,-22.86) AU3(-20.32,-22.86) AU5(-17.78,-22.86) AU7(-15.24,-22.86) AU9(-12.7,-22.86) AU11(-10.16,-22.86) AU13(-7.62,-22.86) AU15(-5.08,-22.86) AU17(-2.54,-22.86) AU19(0,-22.86) AU21(2.54,-22.86) AU23(5.08,-22.86) AU25(7.62,-22.86) AU27(10.16,-22.86) AU29(12.7,-22.86) AU31(15.24,-22.86) AU33(17.78,-22.86) AU35(20.32,-22.86) AU37(22.86,-22.86) B2(-21.59,21.59) B4(-19.05,21.59) B6(-16.51,21.59) B8(-13.97,21.59) B10(-11.43,21.59) B12(-8.89,21.59) B14(-6.35,21.59) B16(-3.81,21.59) B18(-1.27,21.59) B20(1.27,21.59) B22(3.81,21.59) B24(6.35,21.59) B26(8.89,21.59) B28(11.43,21.59) B30(13.97,21.59) B32(16.51,21.59) B34(19.05,21.59) B36(21.59,21.59) C1(-22.86,20.32) C3(-20.32,20.32) C5(-17.78,20.32) C7(-15.24,20.32) C9(-12.7,20.32) C11(-10.16,20.32) C13(-7.62,20.32) C15(-5.08,20.32) C17(-2.54,20.32) C19(0,20.32) C21(2.54,20.32) C23(5.08,20.32) C25(7.62,20.32) C27(10.16,20.32) C29(12.7,20.32) C31(15.24,20.32) C33(17.78,20.32) C35(20.32,20.32) C37(22.86,20.32) D2(-21.59,19.05) D4(-19.05,19.05) D6(-16.51,19.05) D8(-13.97,19.05) D10(-11.43,19.05) D12(-8.89,19.05) D14(-6.35,19.05) D16(-3.81,19.05) D18(-1.27,19.05) D20(1.27,19.05) D22(3.81,19.05) D24(6.35,19.05) D26(8.89,19.05) D28(11.43,19.05) D30(13.97,19.05) D32(16.51,19.05) D34(19.05,19.05) D36(21.59,19.05) E1(-22.86,17.78) E3(-20.32,17.78) E5(-17.78,17.78) E7(-15.24,17.78) E9(-12.7,17.78) E11(-10.16,17.78) E13(-7.62,17.78) E15(-5.08,17.78) E17(-2.54,17.78) E19(0,17.78) E21(2.54,17.78) E23(5.08,17.78) E25(7.62,17.78) E27(10.16,17.78) E29(12.7,17.78) E31(15.24,17.78) E33(17.78,17.78) E35(20.32,17.78) E37(22.86,17.78) F2(-21.59,16.51) F4(-19.05,16.51) F6(-16.51,16.51) F8(-13.97,16.51) F10(-11.43,16.51) F12(-8.89,16.51) F14(-6.35,16.51) F16(-3.81,16.51) F18(-1.27,16.51) F20(1.27,16.51) F22(3.81,16.51) F24(6.35,16.51) F26(8.89,16.51) F28(11.43,16.51) F30(13.97,16.51) F32(16.51,16.51) F34(19.05,16.51) F36(21.59,16.51) G1(-22.86,15.24) G3(-20.32,15.24) G5(-17.78,15.24) G7(-15.24,15.24) G13(-7.62,15.24) G15(-5.08,15.24) G17(-2.54,15.24) G19(0,15.24) G21(2.54,15.24) G23(5.08,15.24) G25(7.62,15.24) G31(15.24,15.24) G33(17.78,15.24) G35(20.32,15.24) G37(22.86,15.24) H2(-21.59,13.97) H4(-19.05,13.97) H6(-16.51,13.97) H32(16.51,13.97) H34(19.05,13.97) H36(21.59,13.97) J1(-22.86,12.7) J3(-20.32,12.7) J5(-17.78,12.7) J33(17.78,12.7) J35(20.32,12.7) J37(22.86,12.7) K2(-21.59,11.43) K4(-19.05,11.43) K6(-16.51,11.43) K32(16.51,11.43) K34(19.05,11.43) K36(21.59,11.43) L1(-22.86,10.16) L3(-20.32,10.16) L5(-17.78,10.16) L33(17.78,10.16) L35(20.32,10.16) L37(22.86,10.16) M2(-21.59,8.89) M4(-19.05,8.89) M6(-16.51,8.89) M32(16.51,8.89) M34(19.05,8.89) M36(21.59,8.89) N1(-22.86,7.62) N3(-20.32,7.62) N5(-17.78,7.62) N7(-15.24,7.62) N31(15.24,7.62) N33(17.78,7.62) N35(20.32,7.62) N37(22.86,7.62) P2(-21.59,6.35) P4(-19.05,6.35) P6(-16.51,6.35) P32(16.51,6.35) P34(19.05,6.35) P36(21.59,6.35) R1(-22.86,5.08) R3(-20.32,5.08) R5(-17.78,5.08) R7(-15.24,5.08) R31(15.24,5.08) R33(17.78,5.08) R35(20.32,5.08) R37(22.86,5.08) T2(-21.59,3.81) T4(-19.05,3.81) T6(-16.51,3.81) T32(16.51,3.81) T34(19.05,3.81) T36(21.59,3.81) U1(-22.86,2.54) U3(-20.32,2.54) U5(-17.78,2.54) U7(-15.24,2.54) U31(15.24,2.54) U33(17.78,2.54) U35(20.32,2.54) U37(22.86,2.54) V2(-21.59,1.27) V4(-19.05,1.27) V6(-16.51,1.27) V32(16.51,1.27) V34(19.05,1.27) V36(21.59,1.27) W1(-22.86,0) W3(-20.32,0) W5(-17.78,0) W7(-15.24,0) W31(15.24,0) W33(17.78,0) W35(20.32,0) W37(22.86,0) Y2(-21.59,-1.27) Y4(-19.05,-1.27) Y6(-16.51,-1.27) Y32(16.51,-1.27) Y34(19.05,-1.27) Y36(21.59,-1.27)
Top Overlay:
  circle w0.25: c-24.78,22.86 r0.125
  lines w0.2: -24.13,-24.13 24.13,-24.13 24.13,24.13 -23.13,24.13 -24.13,23.13 -24.13,-24.13

## PGA52x52-P299/X1.5 [mm] "299-Pin Ceramic Pin Grid Array (PG299)"
height 5.21
pads (299):
  round 1.5 hole 0.9: A2(-21.59,24.13) A3(-19.05,24.13) A4(-16.51,24.13) A5(-13.97,24.13) A6(-11.43,24.13) A7(-8.89,24.13) A8(-6.35,24.13) A9(-3.81,24.13) A10(-1.27,24.13) A11(1.27,24.13) A12(3.81,24.13) A13(6.35,24.13) A14(8.89,24.13) A15(11.43,24.13) A16(13.97,24.13) A17(16.51,24.13) A18(19.05,24.13) A19(21.59,24.13) A20(24.13,24.13) B1(-24.13,21.59) B2(-21.59,21.59) B3(-19.05,21.59) B4(-16.51,21.59) B5(-13.97,21.59) B6(-11.43,21.59) B7(-8.89,21.59) B8(-6.35,21.59) B9(-3.81,21.59) B10(-1.27,21.59) B11(1.27,21.59) B12(3.81,21.59) B13(6.35,21.59) B14(8.89,21.59) B15(11.43,21.59) B16(13.97,21.59) B17(16.51,21.59) B18(19.05,21.59) B19(21.59,21.59) B20(24.13,21.59) C1(-24.13,19.05) C2(-21.59,19.05) C3(-19.05,19.05) C4(-16.51,19.05) C5(-13.97,19.05) C6(-11.43,19.05) C7(-8.89,19.05) C8(-6.35,19.05) C9(-3.81,19.05) C10(-1.27,19.05) C11(1.27,19.05) C12(3.81,19.05) C13(6.35,19.05) C14(8.89,19.05) C15(11.43,19.05) C16(13.97,19.05) C17(16.51,19.05) C18(19.05,19.05) C19(21.59,19.05) C20(24.13,19.05) D1(-24.13,16.51) D2(-21.59,16.51) D3(-19.05,16.51) D4(-16.51,16.51) D5(-13.97,16.51) D6(-11.43,16.51) D7(-8.89,16.51) D8(-6.35,16.51) D9(-3.81,16.51) D10(-1.27,16.51) D11(1.27,16.51) D12(3.81,16.51) D13(6.35,16.51) D14(8.89,16.51) D15(11.43,16.51) D16(13.97,16.51) D17(16.51,16.51) D18(19.05,16.51) D19(21.59,16.51) D20(24.13,16.51) E1(-24.13,13.97) E2(-21.59,13.97) E3(-19.05,13.97) E4(-16.51,13.97) E5(-13.97,13.97) E6(-11.43,13.97) E7(-8.89,13.97) E8(-6.35,13.97) E9(-3.81,13.97) E10(-1.27,13.97) E11(1.27,13.97) E12(3.81,13.97) E13(6.35,13.97) E14(8.89,13.97) E15(11.43,13.97) E16(13.97,13.97) E17(16.51,13.97) E18(19.05,13.97) E19(21.59,13.97) E20(24.13,13.97) F1(-24.13,11.43) F2(-21.59,11.43) F3(-19.05,11.43) F4(-16.51,11.43) F5(-13.97,11.43) F16(13.97,11.43) F17(16.51,11.43) F18(19.05,11.43) F19(21.59,11.43) F20(24.13,11.43) G1(-24.13,8.89) G2(-21.59,8.89) G3(-19.05,8.89) G4(-16.51,8.89) G5(-13.97,8.89) G16(13.97,8.89) G17(16.51,8.89) G18(19.05,8.89) G19(21.59,8.89) G20(24.13,8.89) H1(-24.13,6.35) H2(-21.59,6.35) H3(-19.05,6.35) H4(-16.51,6.35) H5(-13.97,6.35) H16(13.97,6.35) H17(16.51,6.35) H18(19.05,6.35) H19(21.59,6.35) H20(24.13,6.35) J1(-24.13,3.81) J2(-21.59,3.81) J3(-19.05,3.81) J4(-16.51,3.81) J5(-13.97,3.81) J16(13.97,3.81) J17(16.51,3.81) J18(19.05,3.81) J19(21.59,3.81) J20(24.13,3.81) K1(-24.13,1.27) K2(-21.59,1.27) K3(-19.05,1.27) K4(-16.51,1.27) K5(-13.97,1.27) K16(13.97,1.27) K17(16.51,1.27) K18(19.05,1.27) K19(21.59,1.27) K20(24.13,1.27) L1(-24.13,-1.27) L2(-21.59,-1.27) L3(-19.05,-1.27) L4(-16.51,-1.27) L5(-13.97,-1.27) L16(13.97,-1.27) L17(16.51,-1.27) L18(19.05,-1.27) L19(21.59,-1.27) L20(24.13,-1.27) M1(-24.13,-3.81) M2(-21.59,-3.81) M3(-19.05,-3.81) M4(-16.51,-3.81) M5(-13.97,-3.81) M16(13.97,-3.81) M17(16.51,-3.81) M18(19.05,-3.81) M19(21.59,-3.81) M20(24.13,-3.81) N1(-24.13,-6.35) N2(-21.59,-6.35) N3(-19.05,-6.35) N4(-16.51,-6.35) N5(-13.97,-6.35) N16(13.97,-6.35) N17(16.51,-6.35) N18(19.05,-6.35) N19(21.59,-6.35) N20(24.13,-6.35) P1(-24.13,-8.89) P2(-21.59,-8.89) P3(-19.05,-8.89) P4(-16.51,-8.89) P5(-13.97,-8.89) P16(13.97,-8.89) P17(16.51,-8.89) P18(19.05,-8.89) P19(21.59,-8.89) P20(24.13,-8.89) R1(-24.13,-11.43) R2(-21.59,-11.43) R3(-19.05,-11.43) R4(-16.51,-11.43) R5(-13.97,-11.43) R16(13.97,-11.43) R17(16.51,-11.43) R18(19.05,-11.43) R19(21.59,-11.43) R20(24.13,-11.43) T1(-24.13,-13.97) T2(-21.59,-13.97) T3(-19.05,-13.97) T4(-16.51,-13.97) T5(-13.97,-13.97) T6(-11.43,-13.97) T7(-8.89,-13.97) T8(-6.35,-13.97) T9(-3.81,-13.97) T10(-1.27,-13.97) T11(1.27,-13.97) T12(3.81,-13.97) T13(6.35,-13.97) T14(8.89,-13.97) T15(11.43,-13.97) T16(13.97,-13.97) T17(16.51,-13.97) T18(19.05,-13.97) T19(21.59,-13.97) T20(24.13,-13.97) U1(-24.13,-16.51) U2(-21.59,-16.51) U3(-19.05,-16.51) U4(-16.51,-16.51) U5(-13.97,-16.51) U6(-11.43,-16.51) U7(-8.89,-16.51) U8(-6.35,-16.51) U9(-3.81,-16.51) U10(-1.27,-16.51) U11(1.27,-16.51) U12(3.81,-16.51) U13(6.35,-16.51) U14(8.89,-16.51) U15(11.43,-16.51) U16(13.97,-16.51) U17(16.51,-16.51) U18(19.05,-16.51) U19(21.59,-16.51) U20(24.13,-16.51) V1(-24.13,-19.05) V2(-21.59,-19.05) V3(-19.05,-19.05) V4(-16.51,-19.05) V5(-13.97,-19.05) V6(-11.43,-19.05) V7(-8.89,-19.05) V8(-6.35,-19.05) V9(-3.81,-19.05) V10(-1.27,-19.05) V11(1.27,-19.05) V12(3.81,-19.05) V13(6.35,-19.05) V14(8.89,-19.05) V15(11.43,-19.05) V16(13.97,-19.05) V17(16.51,-19.05) V18(19.05,-19.05) V19(21.59,-19.05) V20(24.13,-19.05) W1(-24.13,-21.59) W2(-21.59,-21.59) W3(-19.05,-21.59) W4(-16.51,-21.59) W5(-13.97,-21.59) W6(-11.43,-21.59) W7(-8.89,-21.59) W8(-6.35,-21.59) W9(-3.81,-21.59) W10(-1.27,-21.59) W11(1.27,-21.59) W12(3.81,-21.59) W13(6.35,-21.59) W14(8.89,-21.59) W15(11.43,-21.59) W16(13.97,-21.59) W17(16.51,-21.59) W18(19.05,-21.59) W19(21.59,-21.59) W20(24.13,-21.59) X1(-24.13,-24.13) X2(-21.59,-24.13) X3(-19.05,-24.13) X4(-16.51,-24.13) X5(-13.97,-24.13) X6(-11.43,-24.13) X7(-8.89,-24.13) X8(-6.35,-24.13) X9(-3.81,-24.13) X10(-1.27,-24.13) X11(1.27,-24.13) X12(3.81,-24.13) X13(6.35,-24.13) X14(8.89,-24.13) X15(11.43,-24.13) X16(13.97,-24.13) X17(16.51,-24.13) X18(19.05,-24.13) X19(21.558,-24.142) X20(24.13,-24.13)
Top Overlay:
  circle w0.25: c-27.1,24.13 r0.125
  lines w0.2: -26.45,-26.45 -26.45,25.45 -25.45,26.45 26.45,26.45 26.45,-26.45 -26.45,-26.45

## PGA52x52-P411 [mm] "411-Pin Ceramic Pin Grid Array (PG411)"
height 5.86
pads (411):
  round 1.5 hole 0.9: A3(-21.59,24.13) A5(-19.05,24.13) A7(-16.51,24.13) A9(-13.97,24.13) A11(-11.43,24.13) A13(-8.89,24.13) A15(-6.35,24.13) A17(-3.81,24.13) A19(-1.27,24.13) A21(1.27,24.13) A23(3.81,24.13) A25(6.35,24.13) A27(8.89,24.13) A29(11.43,24.13) A31(13.97,24.13) A33(16.51,24.13) A35(19.05,24.13) A37(21.59,24.13) A39(24.13,24.13) AA1(-24.13,-1.27) AA3(-21.59,-1.27) AA5(-19.05,-1.27) AA35(19.05,-1.27) AA37(21.59,-1.27) AA39(24.13,-1.27) AB2(-22.86,-2.54) AB4(-20.32,-2.54) AB6(-17.78,-2.54) AB34(17.78,-2.54) AB36(20.32,-2.54) AB38(22.86,-2.54) AC1(-24.13,-3.81) AC3(-21.59,-3.81) AC5(-19.05,-3.81) AC35(19.05,-3.81) AC37(21.59,-3.81) AC39(24.13,-3.81) AD2(-22.86,-5.08) AD4(-20.32,-5.08) AD6(-17.78,-5.08) AD34(17.78,-5.08) AD36(20.32,-5.08) AD38(22.86,-5.08) AE1(-24.13,-6.35) AE3(-21.59,-6.35) AE5(-19.05,-6.35) AE35(19.05,-6.35) AE37(21.59,-6.35) AE39(24.13,-6.35) AF2(-22.86,-7.62) AF4(-20.32,-7.62) AF6(-17.78,-7.62) AF34(17.78,-7.62) AF36(20.32,-7.62) AF38(22.86,-7.62) AG1(-24.13,-8.89) AG3(-21.59,-8.89) AG5(-19.05,-8.89) AG35(19.05,-8.89) AG37(21.59,-8.89) AG39(24.13,-8.89) AH2(-22.86,-10.16) AH4(-20.32,-10.16) AH6(-17.78,-10.16) AH34(17.78,-10.16) AH36(20.32,-10.16) AH38(22.86,-10.16) AJ1(-24.13,-11.43) AJ3(-21.59,-11.43) AJ5(-19.05,-11.43) AJ35(19.05,-11.43) AJ37(21.59,-11.43) AJ39(24.13,-11.43) AK2(-22.86,-12.7) AK4(-20.32,-12.7) AK6(-17.78,-12.7) AK34(17.78,-12.7) AK36(20.32,-12.7) AK38(22.86,-12.7) AL1(-24.13,-13.97) AL3(-21.59,-13.97) AL5(-19.05,-13.97) AL7(-16.51,-13.97) AL33(16.51,-13.97) AL35(19.05,-13.97) AL37(21.59,-13.97) AL39(24.13,-13.97) AM2(-22.86,-15.24) AM4(-20.32,-15.24) AM6(-17.78,-15.24) AM8(-15.24,-15.24) AM32(15.24,-15.24) AM34(17.78,-15.24) AM36(20.32,-15.24) AM38(22.86,-15.24) AN1(-24.13,-16.51) AN3(-21.59,-16.51) AN5(-19.05,-16.51) AN7(-16.51,-16.51) AN9(-13.97,-16.51) AN31(13.97,-16.51) AN33(16.51,-16.51) AN35(19.05,-16.51) AN37(21.59,-16.51) AN39(24.13,-16.51) AP2(-22.86,-17.78) AP4(-20.32,-17.78) AP6(-17.78,-17.78) AP8(-15.24,-17.78) AP10(-12.7,-17.78) AP12(-10.16,-17.78) AP14(-7.62,-17.78) AP16(-5.08,-17.78) AP18(-2.54,-17.78) AP20(0,-17.78) AP22(2.54,-17.78) AP24(5.08,-17.78) AP26(7.62,-17.78) AP28(10.16,-17.78) AP30(12.7,-17.78) AP32(15.24,-17.78) AP34(17.78,-17.78) AP36(20.32,-17.78) AP38(22.86,-17.78) AR1(-24.13,-19.05) AR3(-21.59,-19.05) AR5(-19.05,-19.05) AR7(-16.51,-19.05) AR9(-13.97,-19.05) AR11(-11.43,-19.05) AR13(-8.89,-19.05) AR15(-6.35,-19.05) AR17(-3.81,-19.05) AR19(-1.27,-19.05) AR21(1.27,-19.05) AR23(3.81,-19.05) AR25(6.35,-19.05) AR27(8.89,-19.05) AR29(11.43,-19.05) AR31(13.97,-19.05) AR33(16.51,-19.05) AR35(19.05,-19.05) AR37(21.59,-19.05) AR39(24.13,-19.05) AT2(-22.86,-20.32) AT4(-20.32,-20.32) AT6(-17.78,-20.32) AT8(-15.24,-20.32) AT10(-12.7,-20.32) AT12(-10.16,-20.32) AT14(-7.62,-20.32) AT16(-5.08,-20.32) AT18(-2.54,-20.32) AT20(0,-20.32) AT22(2.54,-20.32) AT24(5.08,-20.32) AT26(7.62,-20.32) AT28(10.16,-20.32) AT30(12.7,-20.32) AT32(15.24,-20.32) AT34(17.78,-20.32) AT36(20.32,-20.32) AT38(22.86,-20.32) AU1(-24.13,-21.59) AU3(-21.59,-21.59) AU5(-19.05,-21.59) AU7(-16.51,-21.59) AU9(-13.97,-21.59) AU11(-11.43,-21.59) AU13(-8.89,-21.59) AU15(-6.35,-21.59) AU17(-3.81,-21.59) AU19(-1.27,-21.59) AU21(1.27,-21.59) AU23(3.81,-21.59) AU25(6.35,-21.59) AU27(8.89,-21.59) AU29(11.43,-21.59) AU31(13.97,-21.59) AU33(16.51,-21.59) AU35(19.05,-21.59) AU37(21.59,-21.59) AU39(24.13,-21.59) AV2(-22.86,-22.86) AV4(-20.32,-22.86) AV6(-17.78,-22.86) AV8(-15.24,-22.86) AV10(-12.7,-22.86) AV12(-10.16,-22.86) AV14(-7.62,-22.86) AV16(-5.08,-22.86) AV18(-2.54,-22.86) AV20(0,-22.86) AV22(2.54,-22.86) AV24(5.08,-22.86) AV26(7.62,-22.86) AV28(10.16,-22.86) AV30(12.7,-22.86) AV32(15.24,-22.86) AV34(17.78,-22.86) AV36(20.32,-22.86) AV38(22.86,-22.86) AW1(-24.13,-24.13) AW3(-21.59,-24.13) AW5(-19.05,-24.13) AW7(-16.51,-24.13) AW9(-13.97,-24.13) AW11(-11.43,-24.13) AW13(-8.89,-24.13) AW15(-6.35,-24.13) AW17(-3.81,-24.13) AW19(-1.27,-24.13) AW21(1.27,-24.13) AW23(3.81,-24.13) AW25(6.35,-24.13) AW27(8.89,-24.13) AW29(11.43,-24.13) AW31(13.97,-24.13) AW33(16.51,-24.13) AW35(19.05,-24.13) AW37(21.59,-24.13) AW39(24.13,-24.13) B2(-22.86,22.86) B4(-20.32,22.86) B6(-17.78,22.86) B8(-15.24,22.86) B10(-12.7,22.86) B12(-10.16,22.86) B14(-7.62,22.86) B16(-5.08,22.86) B18(-2.54,22.86) B20(0,22.86) B22(2.54,22.86) B24(5.08,22.86) B26(7.62,22.86) B28(10.16,22.86) B30(12.7,22.86) B32(15.24,22.86) B34(17.78,22.86) B36(20.32,22.86) B38(22.86,22.86) C1(-24.13,21.59) C3(-21.59,21.59) C5(-19.05,21.59) C7(-16.51,21.59) C9(-13.97,21.59) C11(-11.43,21.59) C13(-8.89,21.59) C15(-6.35,21.59) C17(-3.81,21.59) C19(-1.27,21.59) C21(1.27,21.59) C23(3.81,21.59) C25(6.35,21.59) C27(8.89,21.59) C29(11.43,21.59) C31(13.97,21.59) C33(16.51,21.59) C35(19.05,21.59) C37(21.59,21.59) C39(24.13,21.59) D2(-22.86,20.32) D4(-20.32,20.32) D6(-17.78,20.32) D8(-15.24,20.32) D10(-12.7,20.32) D12(-10.16,20.32) D14(-7.62,20.32) D16(-5.08,20.32) D18(-2.54,20.32) D20(0,20.32) D22(2.54,20.32) D24(5.08,20.32) D26(7.62,20.32) D28(10.16,20.32) D30(12.7,20.32) D32(15.24,20.32) D34(17.78,20.32) D36(20.32,20.32) D38(22.86,20.32) E1(-24.13,19.05) E3(-21.59,19.05) E5(-19.05,19.05) E7(-16.51,19.05) E9(-13.97,19.05) E11(-11.43,19.05) E13(-8.89,19.05) E15(-6.35,19.05) E17(-3.81,19.05) E19(-1.27,19.05) E21(1.27,19.05) E23(3.81,19.05) E25(6.35,19.05) E27(8.89,19.05) E29(11.43,19.05) E31(13.97,19.05) E33(16.51,19.05) E35(19.05,19.05) E37(21.59,19.05) E39(24.13,19.05) F2(-22.86,17.78) F4(-20.32,17.78) F6(-17.78,17.78) F8(-15.24,17.78) F10(-12.7,17.78) F12(-10.16,17.78) F14(-7.62,17.78) F16(-5.08,17.78) F18(-2.54,17.78) F20(0,17.78) F22(2.54,17.78) F24(5.08,17.78) F26(7.62,17.78) F28(10.16,17.78) F30(12.7,17.78) F32(15.24,17.78) F34(17.78,17.78) F36(20.32,17.78) F38(22.86,17.78) G1(-24.13,16.51) G3(-21.59,16.51) G5(-19.05,16.51) G7(-16.51,16.51) G9(-13.97,16.51) G31(13.97,16.51) G33(16.51,16.51) G35(19.05,16.51) G37(21.59,16.51) G39(24.13,16.51) H2(-22.86,15.24) H4(-20.32,15.24) H6(-17.78,15.24) H8(-15.24,15.24) H32(15.24,15.24) H34(17.78,15.24) H36(20.32,15.24) H38(22.86,15.24) J1(-24.13,13.97) J3(-21.59,13.97) J5(-19.05,13.97) J7(-16.51,13.97) J33(16.51,13.97) J35(19.05,13.97) J37(21.59,13.97) J39(24.13,13.97) K2(-22.86,12.7) K4(-20.32,12.7) K6(-17.78,12.7) K34(17.78,12.7) K36(20.32,12.7) K38(22.86,12.7) L1(-24.13,11.43) L3(-21.59,11.43) L5(-19.05,11.43) L35(19.05,11.43) L37(21.59,11.43) L39(24.13,11.43) M2(-22.86,10.16) M4(-20.32,10.16) M6(-17.78,10.16) M34(17.78,10.16) M36(20.32,10.16) M38(22.86,10.16) N1(-24.13,8.89) N3(-21.59,8.89) N5(-19.05,8.89) N35(19.05,8.89) N37(21.59,8.89) N39(24.13,8.89) P2(-22.86,7.62) P4(-20.32,7.62) P6(-17.78,7.62) P34(17.78,7.62) P36(20.32,7.62) P38(22.86,7.62) R1(-24.13,6.35) R3(-21.59,6.35) R5(-19.05,6.35) R35(19.05,6.35) R37(21.59,6.35) R39(24.13,6.35) T2(-22.86,5.08) T4(-20.32,5.08) T6(-17.78,5.08) T34(17.78,5.08) T36(20.32,5.08) T38(22.86,5.08) U1(-24.13,3.81) U3(-21.59,3.81) U5(-19.05,3.81) U35(19.05,3.81) U37(21.59,3.81) U39(24.13,3.81) V2(-22.86,2.54) V4(-20.32,2.54) V6(-17.78,2.54) V34(17.78,2.54) V36(20.32,2.54) V38(22.86,2.54) W1(-24.13,1.27) W3(-21.59,1.27) W5(-19.05,1.27) W35(19.05,1.27) W37(21.59,1.27) W39(24.13,1.27) Y2(-22.86,0) Y4(-20.32,0) Y6(-17.78,0) Y34(17.78,0) Y36(20.32,0) Y38(22.86,0)
Top Overlay:
  circle w0.25: c-27.1,24.13 r0.125
  lines w0.2: -26.45,-26.45 26.45,-26.45 26.45,26.45 -25.45,26.45 -26.45,25.45 -26.45,-26.45